# Altium footprint library Package_TO_SOT_THT.PcbLib: 236 footprints (part 15 of 15)
Each footprint in its own frame and in the unit in brackets; x right, y up, seen from the top. Pads: shape width x height; smd on the part's side, far side on the other; paste and mask are expansions set on the pad; w line width, h text height; cw(c..) or ccw(c..) is an arc to the next point about the centre after c.
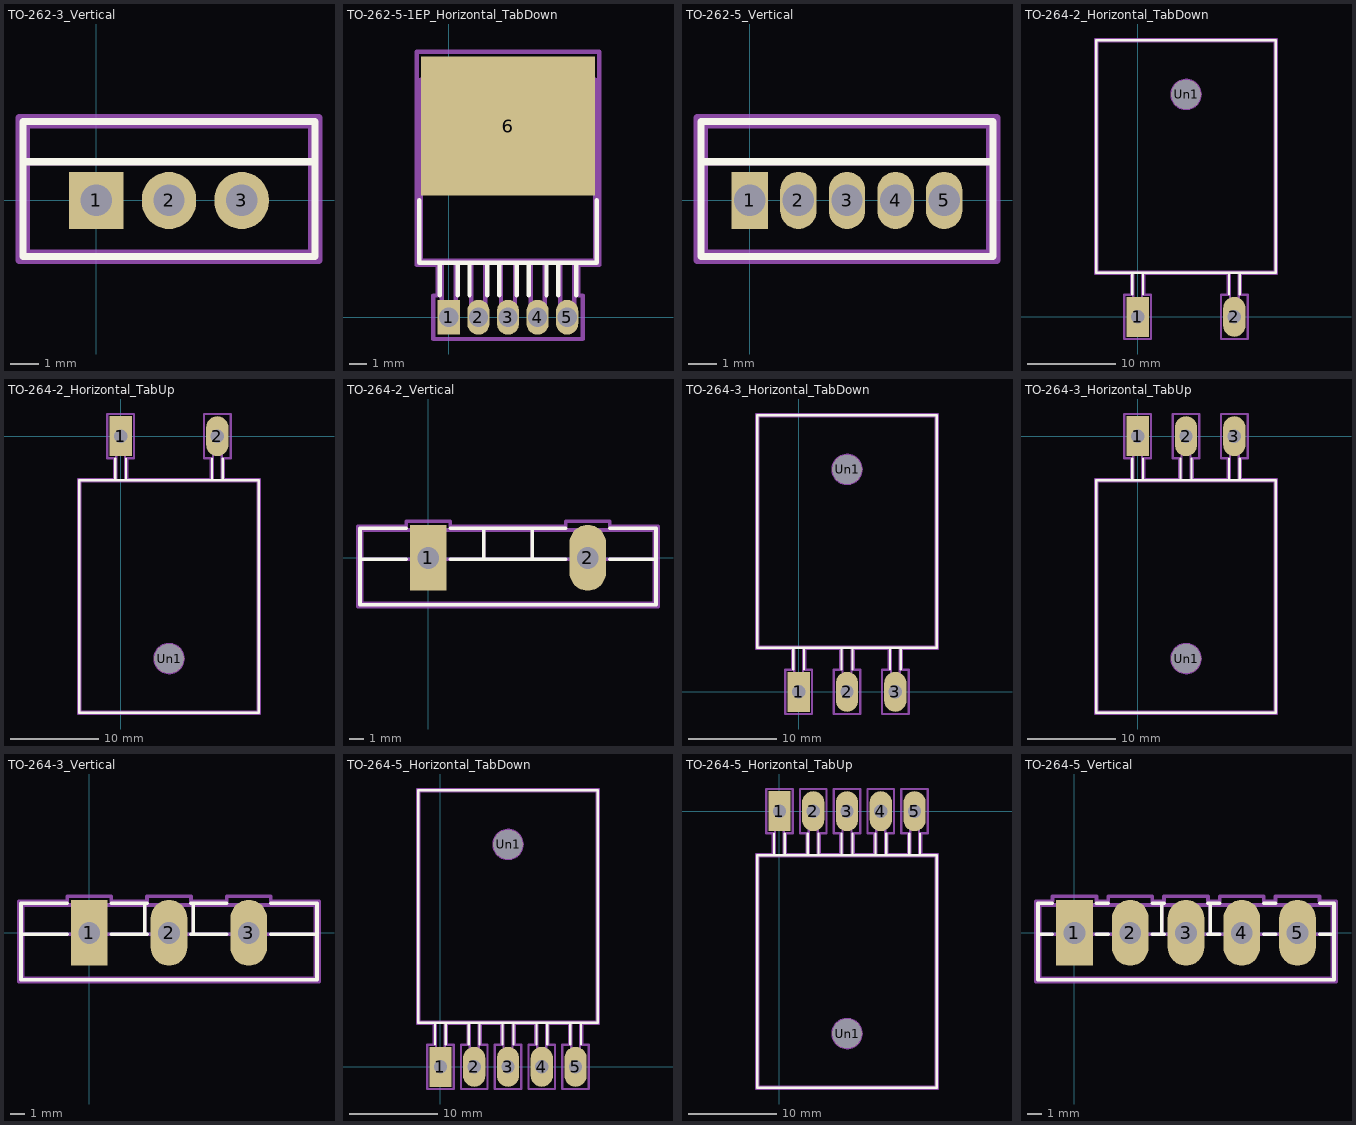
[diagram p14: the footprints below, top view; thin cyan lines are the x and y axes]

## TO-262-3_Vertical [mm]
pads (3):
  rect 1.905x2 hole 1.1: 1(0,0)
  rrect100% 1.905x2 hole 1.1: 2(2.54,0) 3(5.08,0)
F.SilkS:
  lines w0.254: -2.57,1.35 7.65,1.35 ; -2.57,-1.96 -2.57,2.76 7.65,2.76 7.65,-1.96 -2.57,-1.96
F.Fab:
  lines w0.254: -2.46,1.35 7.54,1.35 ; -2.46,-1.85 -2.46,2.65 7.54,2.65 7.54,-1.85 -2.46,-1.85
  text "'.Designator'" at -1.507,-0.44 h1
F.CrtYd:
  lines w0.254: -2.71,-2.1 -2.71,2.9 7.79,2.9 7.79,-2.1 -2.71,-2.1
3D body "TO-262-3_Vertical.step": height 13.4, standoff -7.33, extent -2.465,-1.85 7.545,2.651

## TO-262-5-1EP_Horizontal_TabDown [mm]
pads (6):
  rect 1.275x2 hole 1.1: 1(0,0)
  rrect100% 1.275x2 hole 1.1: 2(1.7,0) 3(3.4,0) 4(5.1,0) 5(6.8,0)
  rect 10x8 smd: 6(3.4,10.983)
F.SilkS:
  lines w0.254: -1.71,6.723 -1.71,3.14 8.51,3.14 8.51,6.723 ; -0.51,1.26 -0.51,3.14 ; 0.51,1.26 0.51,3.14 ; 1.19,1.26 1.19,3.14 ; 2.21,1.26 2.21,3.14 ; 2.89,1.26 2.89,3.14 ; 3.91,1.26 3.91,3.14 ; 4.59,1.26 4.59,3.14 ; 5.61,1.26 5.61,3.14 ; 6.29,1.26 6.29,3.14 ; 7.31,1.26 7.31,3.14
F.Fab:
  lines w0.254: -1.6,12.45 8.4,12.45 ; -1.6,12.45 -1.6,3.25 8.4,3.25 8.4,12.45 ; -1.6,12.45 8.4,12.45 ; -1.6,12.45 -1.6,13.65 8.4,13.65 8.4,12.45 ; -0.4,0 0.4,0 0.4,3.25 -0.4,3.25 -0.4,0 ; 1.3,0 2.1,0 2.1,3.25 1.3,3.25 1.3,0 ; 3,0 3.8,0 3.8,3.25 3,3.25 3,0 ; 4.7,0 5.5,0 5.5,3.25 4.7,3.25 4.7,0 ; 6.4,0 7.2,0 7.2,3.25 6.4,3.25 6.4,0
  text "'.Designator'" at -0.647,6.16 h1
F.CrtYd:
  lines w0.254: -1.85,3 -0.65,3 -0.65,1.25 -0.89,1.25 -0.89,-1.25 7.69,-1.25 7.69,1.25 7.45,1.25 7.45,3 8.65,3 8.65,15.24 -1.85,15.24 -1.85,3

## TO-262-5_Vertical [mm]
pads (5):
  rect 1.275x2 hole 1.1: 1(0,0)
  rrect100% 1.275x2 hole 1.1: 2(1.7,0) 3(3.4,0) 4(5.1,0) 5(6.8,0)
F.SilkS:
  lines w0.254: -1.71,1.35 8.51,1.35 ; -1.71,-1.96 -1.71,2.76 8.51,2.76 8.51,-1.96 -1.71,-1.96
F.Fab:
  lines w0.254: -1.6,1.35 8.4,1.35 ; -1.6,-1.85 -1.6,2.65 8.4,2.65 8.4,-1.85 -1.6,-1.85
  text "'.Designator'" at -0.647,-0.44 h1
F.CrtYd:
  lines w0.254: -1.85,-2.1 -1.85,2.9 8.65,2.9 8.65,-2.1 -1.85,-2.1
3D body "TO-262-5_Vertical.step": height 13.4, standoff -7.33, extent -1.605,-1.85 8.405,2.651

## TO-264-2_Horizontal_TabDown [mm]
pads (3):
  rect 2.5x4.5 hole 1.5: 1(0,0)
  rrect100% 2.5x4.5 hole 1.5: 2(10.9,0)
  round 3.3 hole 3.3: Un1(5.45,25.08)
F.SilkS:
  lines w0.254: -0.61,2.51 -0.61,4.97 ; 0.61,2.51 0.61,4.97 ; 10.29,2.51 10.29,4.97 ; 11.51,2.51 11.51,4.97 ; -4.66,4.97 15.56,4.97 15.56,31.19 -4.66,31.19 -4.66,4.97
F.Fab:
  circle w0.254: c5.45,25.08 r1.65
  lines w0.254: -4.55,5.08 15.45,5.08 15.45,31.08 -4.55,31.08 -4.55,5.08 ; -0.5,0 0.5,0 0.5,5.08 -0.5,5.08 -0.5,0 ; 10.4,0 11.4,0 11.4,5.08 10.4,5.08 10.4,0
  text "'.Designator'" at 1.403,13.57 h1
F.CrtYd:
  lines w0.254: -4.8,4.82 -0.75,4.82 -0.75,2.5 -1.5,2.5 -1.5,-2.5 1.5,-2.5 1.5,2.5 0.75,2.5 0.75,4.82 10.15,4.82 10.15,2.5 9.4,2.5 9.4,-2.5 12.4,-2.5 12.4,2.5 11.65,2.5 11.65,4.82 15.7,4.82 15.7,31.33 -4.8,31.33 -4.8,4.82

## TO-264-2_Horizontal_TabUp [mm]
pads (3):
  rect 2.5x4.5 hole 1.5: 1(0,0)
  rrect100% 2.5x4.5 hole 1.5: 2(10.9,0)
  round 3.3 hole 3.3: Un1(5.45,-25.08)
F.SilkS:
  lines w0.254: -0.61,-4.97 -0.61,-2.51 ; 0.61,-4.97 0.61,-2.51 ; 10.29,-4.97 10.29,-2.51 ; 11.51,-4.97 11.51,-2.51 ; -4.66,-31.19 15.56,-31.19 15.56,-4.97 -4.66,-4.97 -4.66,-31.19
F.Fab:
  circle w0.254: c5.45,-25.08 r1.65
  lines w0.254: -4.55,-31.08 15.45,-31.08 15.45,-5.08 -4.55,-5.08 -4.55,-31.08 ; -0.5,-5.08 0.5,-5.08 0.5,0 -0.5,0 -0.5,-5.08 ; 10.4,-5.08 11.4,-5.08 11.4,0 10.4,0 10.4,-5.08
  text "'.Designator'" at 1.403,-15.25 h1
F.CrtYd:
  lines w0.254: -4.8,-31.33 15.7,-31.33 15.7,-4.82 11.65,-4.82 11.65,-2.5 12.4,-2.5 12.4,2.5 9.4,2.5 9.4,-2.5 10.15,-2.5 10.15,-4.82 0.75,-4.82 0.75,-2.5 1.5,-2.5 1.5,2.5 -1.5,2.5 -1.5,-2.5 -0.75,-2.5 -0.75,-4.82 -4.8,-4.82 -4.8,-31.33

## TO-264-2_Vertical [mm]
pads (2):
  rect 2.5x4.5 hole 1.5: 1(0,0)
  rrect100% 2.5x4.5 hole 1.5: 2(10.9,0)
F.SilkS:
  lines w0.254: -4.66,-0.1 -1.51,-0.1 ; -1.51,2.01 -4.66,2.01 -4.66,-3.21 15.56,-3.21 15.56,2.01 12.41,2.01 ; 1.51,-0.1 9.39,-0.1 ; 1.51,2.01 9.39,2.01 ; 3.8,-0.1 3.8,2.01 ; 7.1,-0.1 7.1,2.01 ; 12.41,-0.1 15.56,-0.1
F.Fab:
  lines w0.254: -4.55,-0.1 15.45,-0.1 ; 3.8,-0.1 3.8,1.9 ; 7.1,-0.1 7.1,1.9 ; -4.55,-3.1 -4.55,1.9 15.45,1.9 15.45,-3.1 -4.55,-3.1
  text "'.Designator'" at 1.403,-1.44 h1
F.CrtYd:
  lines w0.254: -4.8,-3.35 -4.8,2.15 -1.5,2.15 -1.5,2.5 1.5,2.5 1.5,2.15 9.4,2.15 9.4,2.5 12.4,2.5 12.4,2.15 15.7,2.15 15.7,-3.35 -4.8,-3.35
3D body "TO-264-2_Vertical.step": height 28.5, standoff -17.5, extent -4.65,-1.525 15.55,3.475

## TO-264-3_Horizontal_TabDown [mm]
pads (4):
  rect 2.5x4.5 hole 1.5: 1(0,0)
  rrect100% 2.5x4.5 hole 1.5: 2(5.45,0) 3(10.9,0)
  round 3.3 hole 3.3: Un1(5.45,25.08)
F.SilkS:
  lines w0.254: -0.61,2.51 -0.61,4.97 ; 0.61,2.51 0.61,4.97 ; 4.84,2.51 4.84,4.97 ; 6.06,2.51 6.06,4.97 ; 10.29,2.51 10.29,4.97 ; 11.51,2.51 11.51,4.97 ; -4.66,4.97 15.56,4.97 15.56,31.19 -4.66,31.19 -4.66,4.97
F.Fab:
  circle w0.254: c5.45,25.08 r1.65
  lines w0.254: -4.55,5.08 15.45,5.08 15.45,31.08 -4.55,31.08 -4.55,5.08 ; -0.5,0 0.5,0 0.5,5.08 -0.5,5.08 -0.5,0 ; 4.95,0 5.95,0 5.95,5.08 4.95,5.08 4.95,0 ; 10.4,0 11.4,0 11.4,5.08 10.4,5.08 10.4,0
  text "'.Designator'" at 1.403,13.57 h1
F.CrtYd:
  lines w0.254: -4.8,4.82 -0.75,4.82 -0.75,2.5 -1.5,2.5 -1.5,-2.5 1.5,-2.5 1.5,2.5 0.75,2.5 0.75,4.82 4.7,4.82 4.7,2.5 3.95,2.5 3.95,-2.5 6.95,-2.5 6.95,2.5 6.2,2.5 6.2,4.82 10.15,4.82 10.15,2.5 9.4,2.5 9.4,-2.5 12.4,-2.5 12.4,2.5 11.65,2.5 11.65,4.82 15.7,4.82 15.7,31.33 -4.8,31.33 -4.8,4.82

## TO-264-3_Horizontal_TabUp [mm]
pads (4):
  rect 2.5x4.5 hole 1.5: 1(0,0)
  rrect100% 2.5x4.5 hole 1.5: 2(5.45,0) 3(10.9,0)
  round 3.3 hole 3.3: Un1(5.45,-25.08)
F.SilkS:
  lines w0.254: -0.61,-4.97 -0.61,-2.51 ; 0.61,-4.97 0.61,-2.51 ; 4.84,-4.97 4.84,-2.51 ; 6.06,-4.97 6.06,-2.51 ; 10.29,-4.97 10.29,-2.51 ; 11.51,-4.97 11.51,-2.51 ; -4.66,-31.19 15.56,-31.19 15.56,-4.97 -4.66,-4.97 -4.66,-31.19
F.Fab:
  circle w0.254: c5.45,-25.08 r1.65
  lines w0.254: -4.55,-31.08 15.45,-31.08 15.45,-5.08 -4.55,-5.08 -4.55,-31.08 ; -0.5,-5.08 0.5,-5.08 0.5,0 -0.5,0 -0.5,-5.08 ; 4.95,-5.08 5.95,-5.08 5.95,0 4.95,0 4.95,-5.08 ; 10.4,-5.08 11.4,-5.08 11.4,0 10.4,0 10.4,-5.08
  text "'.Designator'" at 1.403,-15.25 h1
F.CrtYd:
  lines w0.254: -4.8,-31.33 15.7,-31.33 15.7,-4.82 11.65,-4.82 11.65,-2.5 12.4,-2.5 12.4,2.5 9.4,2.5 9.4,-2.5 10.15,-2.5 10.15,-4.82 6.2,-4.82 6.2,-2.5 6.95,-2.5 6.95,2.5 3.95,2.5 3.95,-2.5 4.7,-2.5 4.7,-4.82 0.75,-4.82 0.75,-2.5 1.5,-2.5 1.5,2.5 -1.5,2.5 -1.5,-2.5 -0.75,-2.5 -0.75,-4.82 -4.8,-4.82 -4.8,-31.33

## TO-264-3_Vertical [mm]
pads (3):
  rect 2.5x4.5 hole 1.5: 1(0,0)
  rrect100% 2.5x4.5 hole 1.5: 2(5.45,0) 3(10.9,0)
F.SilkS:
  lines w0.254: -4.66,-0.1 -1.51,-0.1 ; -1.51,2.01 -4.66,2.01 -4.66,-3.21 15.56,-3.21 15.56,2.01 12.41,2.01 ; 1.51,-0.1 3.94,-0.1 ; 1.51,2.01 3.94,2.01 ; 3.8,-0.1 3.8,2.01 ; 6.96,-0.1 9.39,-0.1 ; 6.96,2.01 9.39,2.01 ; 7.1,-0.1 7.1,2.01 ; 12.41,-0.1 15.56,-0.1
F.Fab:
  lines w0.254: -4.55,-0.1 15.45,-0.1 ; 3.8,-0.1 3.8,1.9 ; 7.1,-0.1 7.1,1.9 ; -4.55,-3.1 -4.55,1.9 15.45,1.9 15.45,-3.1 -4.55,-3.1
  text "'.Designator'" at 1.403,-1.44 h1
F.CrtYd:
  lines w0.254: -4.8,-3.35 -4.8,2.15 -1.5,2.15 -1.5,2.5 1.5,2.5 1.5,2.15 3.95,2.15 3.95,2.5 6.95,2.5 6.95,2.15 9.4,2.15 9.4,2.5 12.4,2.5 12.4,2.15 15.7,2.15 15.7,-3.35 -4.8,-3.35
3D body "TO-264-3_Vertical.step": height 28.5, standoff -17.5, extent -4.65,-1.525 15.55,3.475

## TO-264-5_Horizontal_TabDown [mm]
pads (6):
  rect 2.5x4.5 hole 1.5: 1(0,0)
  rrect100% 2.5x4.5 hole 1.5: 2(3.81,0) 3(7.62,0) 4(11.43,0) 5(15.24,0)
  round 3.3 hole 3.3: Un1(7.62,25.08)
F.SilkS:
  lines w0.254: -0.61,2.51 -0.61,4.97 ; 0.61,2.51 0.61,4.97 ; 3.2,2.51 3.2,4.97 ; 4.42,2.51 4.42,4.97 ; 7.01,2.51 7.01,4.97 ; 8.23,2.51 8.23,4.97 ; 10.82,2.51 10.82,4.97 ; 12.04,2.51 12.04,4.97 ; 14.63,2.51 14.63,4.97 ; 15.85,2.51 15.85,4.97 ; -2.49,4.97 17.73,4.97 17.73,31.19 -2.49,31.19 -2.49,4.97
F.Fab:
  circle w0.254: c7.62,25.08 r1.65
  lines w0.254: -2.38,5.08 17.62,5.08 17.62,31.08 -2.38,31.08 -2.38,5.08 ; -0.5,0 0.5,0 0.5,5.08 -0.5,5.08 -0.5,0 ; 3.31,0 4.31,0 4.31,5.08 3.31,5.08 3.31,0 ; 7.12,0 8.12,0 8.12,5.08 7.12,5.08 7.12,0 ; 10.93,0 11.93,0 11.93,5.08 10.93,5.08 10.93,0 ; 14.74,0 15.74,0 15.74,5.08 14.74,5.08 14.74,0
  text "'.Designator'" at 3.573,13.57 h1
F.CrtYd:
  lines w0.254: -2.63,4.82 -0.75,4.82 -0.75,2.5 -1.5,2.5 -1.5,-2.5 1.5,-2.5 1.5,2.5 0.75,2.5 0.75,4.82 3.06,4.82 3.06,2.5 2.31,2.5 2.31,-2.5 5.31,-2.5 5.31,2.5 4.56,2.5 4.56,4.82 6.87,4.82 6.87,2.5 6.12,2.5 6.12,-2.5 9.12,-2.5 9.12,2.5 8.37,2.5 8.37,4.82 10.68,4.82 10.68,2.5 9.93,2.5 9.93,-2.5 12.93,-2.5 12.93,2.5 12.18,2.5 12.18,4.82 14.49,4.82 14.49,2.5 13.74,2.5 13.74,-2.5 16.74,-2.5 16.74,2.5 15.99,2.5 15.99,4.82 17.87,4.82 17.87,31.33 -2.63,31.33 -2.63,4.82

## TO-264-5_Horizontal_TabUp [mm]
pads (6):
  rect 2.5x4.5 hole 1.5: 1(0,0)
  rrect100% 2.5x4.5 hole 1.5: 2(3.81,0) 3(7.62,0) 4(11.43,0) 5(15.24,0)
  round 3.3 hole 3.3: Un1(7.62,-25.08)
F.SilkS:
  lines w0.254: -0.61,-4.97 -0.61,-2.51 ; 0.61,-4.97 0.61,-2.51 ; 3.2,-4.97 3.2,-2.51 ; 4.42,-4.97 4.42,-2.51 ; 7.01,-4.97 7.01,-2.51 ; 8.23,-4.97 8.23,-2.51 ; 10.82,-4.97 10.82,-2.51 ; 12.04,-4.97 12.04,-2.51 ; 14.63,-4.97 14.63,-2.51 ; 15.85,-4.97 15.85,-2.51 ; -2.49,-31.19 17.73,-31.19 17.73,-4.97 -2.49,-4.97 -2.49,-31.19
F.Fab:
  circle w0.254: c7.62,-25.08 r1.65
  lines w0.254: -2.38,-31.08 17.62,-31.08 17.62,-5.08 -2.38,-5.08 -2.38,-31.08 ; -0.5,-5.08 0.5,-5.08 0.5,0 -0.5,0 -0.5,-5.08 ; 3.31,-5.08 4.31,-5.08 4.31,0 3.31,0 3.31,-5.08 ; 7.12,-5.08 8.12,-5.08 8.12,0 7.12,0 7.12,-5.08 ; 10.93,-5.08 11.93,-5.08 11.93,0 10.93,0 10.93,-5.08 ; 14.74,-5.08 15.74,-5.08 15.74,0 14.74,0 14.74,-5.08
  text "'.Designator'" at 3.573,-15.25 h1
F.CrtYd:
  lines w0.254: -2.63,-31.33 17.87,-31.33 17.87,-4.82 15.99,-4.82 15.99,-2.5 16.74,-2.5 16.74,2.5 13.74,2.5 13.74,-2.5 14.49,-2.5 14.49,-4.82 12.18,-4.82 12.18,-2.5 12.93,-2.5 12.93,2.5 9.93,2.5 9.93,-2.5 10.68,-2.5 10.68,-4.82 8.37,-4.82 8.37,-2.5 9.12,-2.5 9.12,2.5 6.12,2.5 6.12,-2.5 6.87,-2.5 6.87,-4.82 4.56,-4.82 4.56,-2.5 5.31,-2.5 5.31,2.5 2.31,2.5 2.31,-2.5 3.06,-2.5 3.06,-4.82 0.75,-4.82 0.75,-2.5 1.5,-2.5 1.5,2.5 -1.5,2.5 -1.5,-2.5 -0.75,-2.5 -0.75,-4.82 -2.63,-4.82 -2.63,-31.33

## TO-264-5_Vertical [mm]
pads (5):
  rect 2.5x4.5 hole 1.5: 1(0,0)
  rrect100% 2.5x4.5 hole 1.5: 2(3.81,0) 3(7.62,0) 4(11.43,0) 5(15.24,0)
F.SilkS:
  lines w0.254: -2.49,-0.1 -1.51,-0.1 ; -1.51,2.01 -2.49,2.01 -2.49,-3.21 17.73,-3.21 17.73,2.01 16.75,2.01 ; 1.51,-0.1 2.3,-0.1 ; 1.51,2.01 2.3,2.01 ; 5.32,-0.1 6.11,-0.1 ; 5.32,2.01 6.11,2.01 ; 5.97,-0.1 5.97,2.01 ; 9.13,-0.1 9.92,-0.1 ; 9.13,2.01 9.92,2.01 ; 9.27,-0.1 9.27,2.01 ; 12.94,-0.1 13.73,-0.1 ; 12.94,2.01 13.73,2.01 ; 16.75,-0.1 17.73,-0.1
F.Fab:
  lines w0.254: -2.38,-0.1 17.62,-0.1 ; 5.97,-0.1 5.97,1.9 ; 9.27,-0.1 9.27,1.9 ; -2.38,-3.1 17.62,-3.1 17.62,1.9 -2.38,1.9 -2.38,-3.1
  text "'.Designator'" at 3.573,-1.44 h1
F.CrtYd:
  lines w0.254: -2.63,-3.35 17.87,-3.35 17.87,2.15 16.74,2.15 16.74,2.5 13.74,2.5 13.74,2.15 12.93,2.15 12.93,2.5 9.93,2.5 9.93,2.15 9.12,2.15 9.12,2.5 6.12,2.5 6.12,2.15 5.31,2.15 5.31,2.5 2.31,2.5 2.31,2.15 1.5,2.15 1.5,2.5 -1.5,2.5 -1.5,2.15 -2.63,2.15 -2.63,-3.35
3D body "TO-264-5_Vertical.step": height 28.5, standoff -17.5, extent -2.48,-1.525 17.72,3.475